# EAGLE library part 8_PINES (library Eagle_CAD_parts)
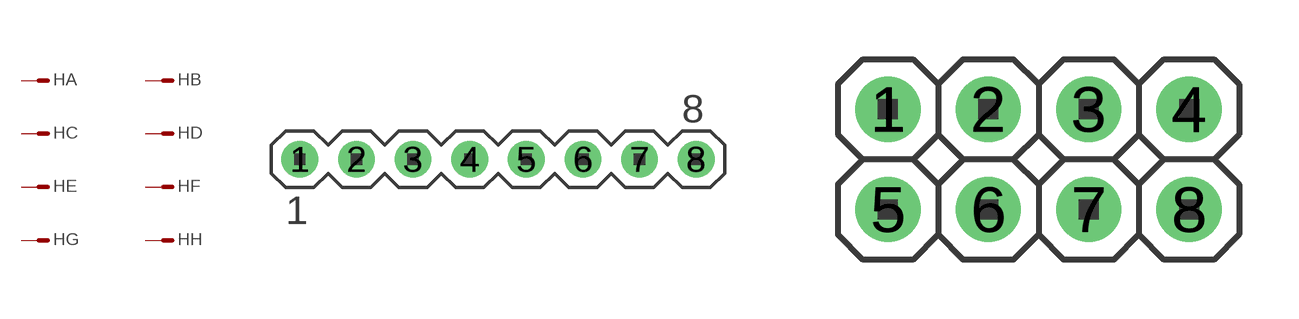
[diagram p40: symbol with the pads of 8_PINES; footprints 8_PINES, 8_PINES_2F4C]

Designator prefix H; gates A=PIN_1 B=PIN_1 C=PIN_1 D=PIN_1 E=PIN_1 F=PIN_1 G=PIN_1 H=PIN_1

## 8_PINES_WR-PHD (DIGIKEY_PART_NUMBER: 732-5321-ND; I: 3 A; MANUFACTURER_PART_NUMBER: 61300811121; V: 250 V)  [8_PINES]
1  A:S  pas
2  B:S  pas
3  C:S  pas
4  D:S  pas
5  E:S  pas
6  F:S  pas
7  G:S  pas
8  H:S  pas

## 8_PINES_WR-PHD_2  [8_PINES_2F4C]
Pads as for 8_PINES

## 8_PINES_INDUS_M8 (I: 1.5 A; MANUFACTURER: Indus-connector; MANUFACTURER_PART_NUMBER: 8B019; V: 30 V)  [8_PINES_INDUS_M8]
Pads as for 8_PINES

## 8_PINES_SIGNAL_M8 (I: 1.5 A; MANUFACTURER: Shen Zhen Signal Electronics co.,Ltd; MANUFACTURER_PART_NUMBER: 080108-04-005; V: 30 V)  [8_PINES_SIGNAL_M8]
Pads as for 8_PINES

## 8_PINES_SCS_F (DIGIKEY_PART_NUMBER: S7041-ND; I: 3 A; MANUFACTURER_PART_NUMBER: PPPC081LFBN-RC; V: 250 V)  [8_PINES_F]
Pads as for 8_PINES

## 8_PINES_SCS_F_C (DIGIKEY_PART_NUMBER: S5639-ND; I: 3 A; MANUFACTURER_PART_NUMBER: NPPC081KFXC-RC; V: 250 V)  [8_PINES_8F1C_F_SMD_C]
Pads as for 8_PINES

## Footprint 8_PINES (pad centres in mm)
drill 1.1: 1 -8.89,0; 2 -6.35,0; 3 -3.81,0; 4 -1.27,0; 5 1.27,0; 6 3.81,0; 7 6.35,0; 8 8.89,0

## Footprint 8_PINES_2F4C (pad centres in mm)
drill 1.1: 1 -3.81,1.27; 2 -1.27,1.27; 3 1.27,1.27; 4 3.81,1.27; 5 -3.81,-1.27; 6 -1.27,-1.27; 7 1.27,-1.27; 8 3.81,-1.27

## Footprint 8_PINES_INDUS_M8 (pad centres in mm)
drill 0.8 pad 1.1: 1 -1.37,1.32; 2 1.32,1.37; 3 1.9,0; 4 1.34,-1.35; 5 0,-1.9; 6 -1.34,-1.35; 7 -1.9,0; 8 0,0

## Footprint 8_PINES_SIGNAL_M8 (pad centres in mm)
drill 0.8 pad 1.1: 1 -0.9,1.65; 2 0.9,1.65; 3 1.85,0.35; 4 1.45,-1.2; 5 0,-1.9; 6 -1.45,-1.2; 7 -1.85,0.35; 8 0,0

## Footprint 8_PINES_F (pad centres in mm)
drill 1.1: 1 -8.89,0; 2 -6.35,0; 3 -3.81,0; 4 -1.27,0; 5 1.27,0; 6 3.81,0; 7 6.35,0; 8 8.89,0

## Footprint 8_PINES_8F1C_F_SMD_C (pad centres in mm)
smd 0.991 x 2.007: 1 -8.89,1.651; 2 -6.35,-1.651; 3 -3.81,1.651; 4 -1.27,-1.651; 5 1.27,1.651; 6 3.81,-1.651; 7 6.35,1.651; 8 8.89,-1.651